# EAGLE library part STM32F446ZE (library BA Parts)
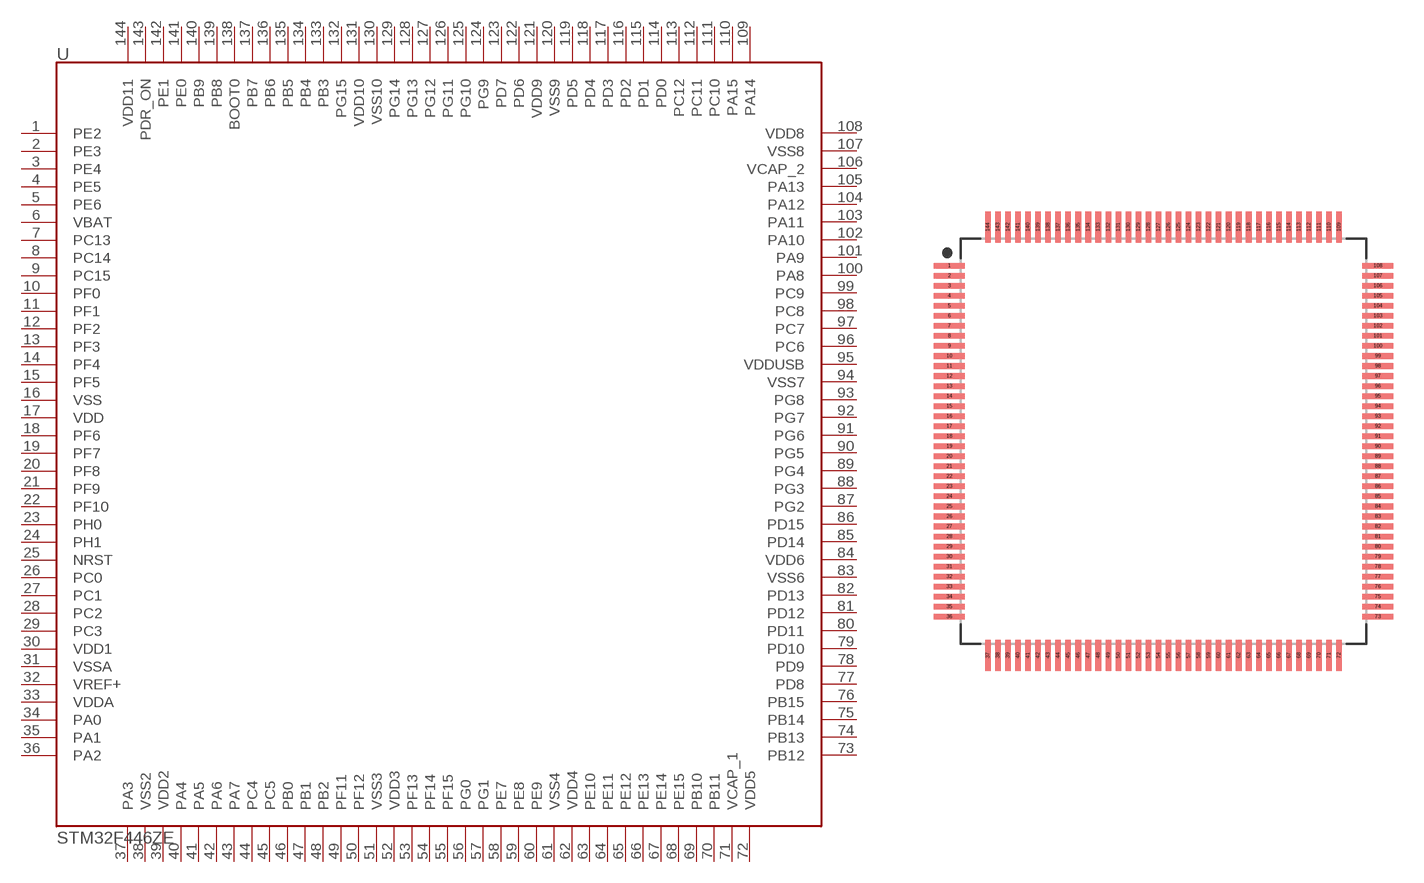
[diagram p3: symbol with the pads of QFP50P2200X2200X160-144N; footprint QFP50P2200X2200X160-144N]

Designator prefix -

## STM32F446ZELQFP144  [QFP50P2200X2200X160-144N]
1  PE2
2  PE3
3  PE4
4  PE5
5  PE6
6  VBAT
7  PC13
8  PC14
9  PC15
10  PF0
11  PF1
12  PF2
13  PF3
14  PF4
15  PF5
16  VSS
17  VDD
18  PF6
19  PF7
20  PF8
21  PF9
22  PF10
23  PH0
24  PH1
25  NRST
26  PC0
27  PC1
28  PC2
29  PC3
30  VDD1
31  VSSA
32  VREF+
33  VDDA
34  PA0
35  PA1
36  PA2
37  PA3
38  VSS2
39  VDD2
40  PA4
41  PA5
42  PA6
43  PA7
44  PC4
45  PC5
46  PB0
47  PB1
48  PB2
49  PF11
50  PF12
51  VSS3
52  VDD3
53  PF13
54  PF14
55  PF15
56  PG0
57  PG1
58  PE7
59  PE8
60  PE9
61  VSS4
62  VDD4
63  PE10
64  PE11
65  PE12
66  PE13
67  PE14
68  PE15
69  PB10
70  PB11
71  VCAP_1
72  VDD5
73  PB12
74  PB13
75  PB14
76  PB15
77  PD8
78  PD9
79  PD10
80  PD11
81  PD12
82  PD13
83  VSS6
84  VDD6
85  PD14
86  PD15
87  PG2
88  PG3
89  PG4
90  PG5
91  PG6
92  PG7
93  PG8
94  VSS7
95  VDDUSB
96  PC6
97  PC7
98  PC8
99  PC9
100  PA8
101  PA9
102  PA10
103  PA11
104  PA12
105  PA13
106  VCAP_2
107  VSS8
108  VDD8
109  PA14
110  PA15
111  PC10
112  PC11
113  PC12
114  PD0
115  PD1
116  PD2
117  PD3
118  PD4
119  PD5
120  VSS9
121  VDD9
122  PD6
123  PD7
124  PG9
125  PG10
126  PG11
127  PG12
128  PG13
129  PG14
130  VSS10
131  VDD10
132  PG15
133  PB3
134  PB4
135  PB5
136  PB6
137  PB7
138  BOOT0
139  PB8
140  PB9
141  PE0
142  PE1
143  PDR_ON
144  VDD11

## Footprint QFP50P2200X2200X160-144N (pad centres in mm)
144-QFP, 0.50 mm pitch, 22.00 mm span, 20.00 X 20.00 X 1.60 mm body 144-pin QFP package with 0.50 mm pitch, 22.00 mm lead span1 X 22.00 mm lead span2 with body size 20.00 X 20.00 X 1.60 mm
smd 1.559 x 0.28: 1 -10.678,8.75; 2 -10.678,8.25; 3 -10.678,7.75; 4 -10.678,7.25; 5 -10.678,6.75; 6 -10.678,6.25; 7 -10.678,5.75; 8 -10.678,5.25; 9 -10.678,4.75; 10 -10.678,4.25; 11 -10.678,3.75; 12 -10.678,3.25; 13 -10.678,2.75; 14 -10.678,2.25; 15 -10.678,1.75; 16 -10.678,1.25; 17 -10.678,0.75; 18 -10.678,0.25; 19 -10.678,-0.25; 20 -10.678,-0.75; 21 -10.678,-1.25; 22 -10.678,-1.75; 23 -10.678,-2.25; 24 -10.678,-2.75; 25 -10.678,-3.25; 26 -10.678,-3.75; 27 -10.678,-4.25; 28 -10.678,-4.75; 29 -10.678,-5.25; 30 -10.678,-5.75; 31 -10.678,-6.25; 32 -10.678,-6.75; 33 -10.678,-7.25; 34 -10.678,-7.75; 35 -10.678,-8.25; 36 -10.678,-8.75; 73 10.678,-8.75; 74 10.678,-8.25; 75 10.678,-7.75; 76 10.678,-7.25; 77 10.678,-6.75; 78 10.678,-6.25; 79 10.678,-5.75; 80 10.678,-5.25; 81 10.678,-4.75; 82 10.678,-4.25; 83 10.678,-3.75; 84 10.678,-3.25; 85 10.678,-2.75; 86 10.678,-2.25; 87 10.678,-1.75; 88 10.678,-1.25; 89 10.678,-0.75; 90 10.678,-0.25; 91 10.678,0.25; 92 10.678,0.75; 93 10.678,1.25; 94 10.678,1.75; 95 10.678,2.25; 96 10.678,2.75; 97 10.678,3.25; 98 10.678,3.75; 99 10.678,4.25; 100 10.678,4.75; 101 10.678,5.25; 102 10.678,5.75; 103 10.678,6.25; 104 10.678,6.75; 105 10.678,7.25; 106 10.678,7.75; 107 10.678,8.25; 108 10.678,8.75
smd 0.28 x 1.559: 37 -8.75,-10.678; 38 -8.25,-10.678; 39 -7.75,-10.678; 40 -7.25,-10.678; 41 -6.75,-10.678; 42 -6.25,-10.678; 43 -5.75,-10.678; 44 -5.25,-10.678; 45 -4.75,-10.678; 46 -4.25,-10.678; 47 -3.75,-10.678; 48 -3.25,-10.678; 49 -2.75,-10.678; 50 -2.25,-10.678; 51 -1.75,-10.678; 52 -1.25,-10.678; 53 -0.75,-10.678; 54 -0.25,-10.678; 55 0.25,-10.678; 56 0.75,-10.678; 57 1.25,-10.678; 58 1.75,-10.678; 59 2.25,-10.678; 60 2.75,-10.678; 61 3.25,-10.678; 62 3.75,-10.678; 63 4.25,-10.678; 64 4.75,-10.678; 65 5.25,-10.678; 66 5.75,-10.678; 67 6.25,-10.678; 68 6.75,-10.678; 69 7.25,-10.678; 70 7.75,-10.678; 71 8.25,-10.678; 72 8.75,-10.678; 109 8.75,10.678; 110 8.25,10.678; 111 7.75,10.678; 112 7.25,10.678; 113 6.75,10.678; 114 6.25,10.678; 115 5.75,10.678; 116 5.25,10.678; 117 4.75,10.678; 118 4.25,10.678; 119 3.75,10.678; 120 3.25,10.678; 121 2.75,10.678; 122 2.25,10.678; 123 1.75,10.678; 124 1.25,10.678; 125 0.75,10.678; 126 0.25,10.678; 127 -0.25,10.678; 128 -0.75,10.678; 129 -1.25,10.678; 130 -1.75,10.678; 131 -2.25,10.678; 132 -2.75,10.678; 133 -3.25,10.678; 134 -3.75,10.678; 135 -4.25,10.678; 136 -4.75,10.678; 137 -5.25,10.678; 138 -5.75,10.678; 139 -6.25,10.678; 140 -6.75,10.678; 141 -7.25,10.678; 142 -7.75,10.678; 143 -8.25,10.678; 144 -8.75,10.678